# Altium footprint library 4sip.PcbLib: 1 footprints
Each footprint in its own frame and in the unit in brackets; x right, y up, seen from the top. Pads: shape width x height; smd on the part's side, far side on the other; paste and mask are expansions set on the pad; w line width, h text height; cw(c..) or ccw(c..) is an arc to the next point about the centre after c.
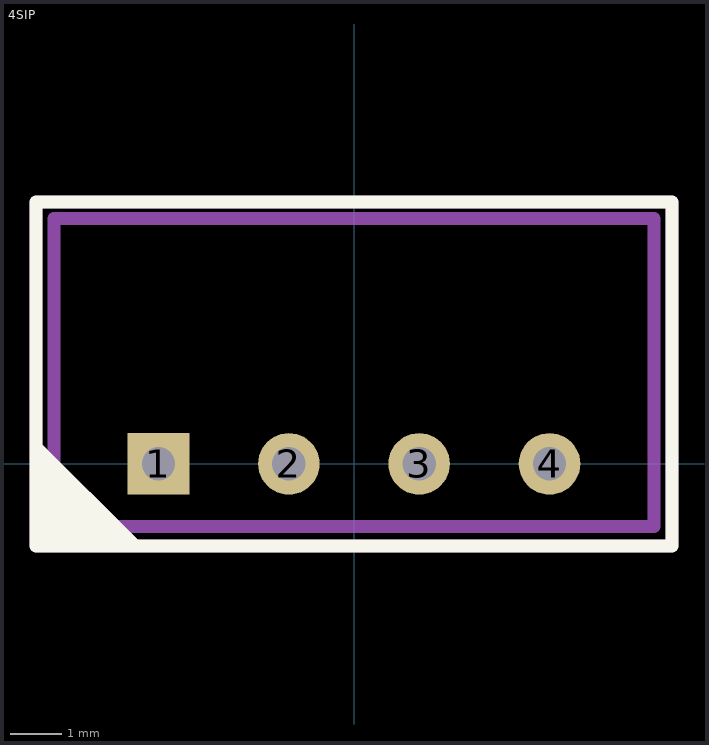
[diagram p0: the footprint, top view; thin cyan lines are the x and y axes]

## 4SIP [mm]
pads (4):
  rect 1.2x1.2 hole 0.65: 1(-3.81,0)
  round 1.2 hole 0.65: 2(-1.27,0) 3(1.27,0) 4(3.81,0)
Top Overlay:
  region: -6.2,0.5 -4.1,-1.6 -6.2,-1.6
  lines w0.254: -6.2,-1.6 -6.2,5.1 6.2,5.1 6.2,-1.6 -6.2,-1.6
Top 3D Body:
  lines w0.254: -5.842,-1.222 -5.842,4.778 5.842,4.778 5.842,-1.222 -5.842,-1.222
Top Courtyard:
  region: -6.2,-1.6 -6.2,0.5 -4.1,-1.6
  lines w0.254: -6.2,-1.6 -6.2,5.1 6.2,5.1 6.2,-1.6 -6.2,-1.6
3D body "User Library-4-Lead SIP_AM1S-1205SZ_Aimtec_DC-DC_Converter_1_Watt.step": height 10.16, standoff -3.04, extent -5.842,-1.222 5.842,4.778